# Altium schematic symbol library SCH - BJT - TOSHIBA NPN SC-75.SchLib: 1 symbol
Pins are listed as number, name and electrical type; pins without a type are passive.

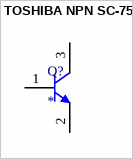
[diagram p0: symbol TOSHIBA NPN SC-75]

## TOSHIBA NPN SC-75
designator Q?
pins: 1 B, 2 E, 3 C